# Altium footprint library STM LSM303AGR.PcbLib: 1 footprints
Each footprint in its own frame and in the unit in brackets; x right, y up, seen from the top. Pads: shape width x height; smd on the part's side, far side on the other; paste and mask are expansions set on the pad; w line width, h text height; cw(c..) or ccw(c..) is an arc to the next point about the centre after c.
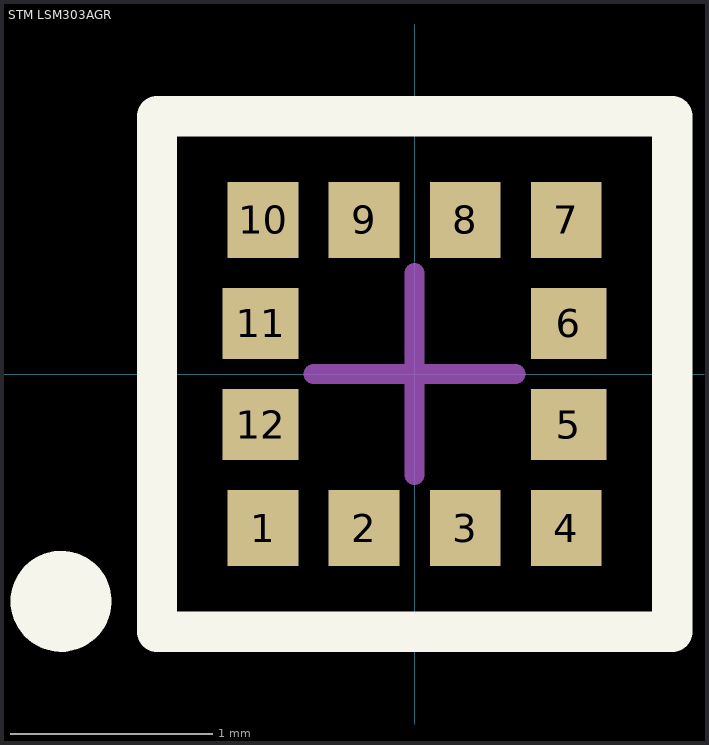
[diagram p0: the footprint, top view; thin cyan lines are the x and y axes]

## STM LSM303AGR [mm]
height 1
pads (12):
  rect 0.35x0.375 smd: 1(-0.75,-0.763) 2(-0.25,-0.763) 3(0.25,-0.763) 4(0.75,-0.763) 7(0.75,0.763) 8(0.25,0.763) 9(-0.25,0.763) 10(-0.75,0.763)
  rect 0.375x0.35 smd: 5(0.763,-0.25) 6(0.763,0.25) 11(-0.763,0.25) 12(-0.763,-0.25)
Top Overlay:
  circle w0.25: c-1.75,-1.125 r0.125
  lines w0.2: -1.275,-1.275 1.275,-1.275 1.275,1.275 -1.275,1.275 -1.275,-1.275
Mechanical 11:
  lines w0.1: -0.5,0 0.5,0 ; 0,-0.5 0,0.5
3D body "STM LSM303AGR.STEP": height 1.02, standoff 0, extent -1,-1 1,1